# Altium schematic symbol library SOD_123_Diode.SchLib: 1 symbol
Pins are listed as number, name and electrical type; pins without a type are passive.

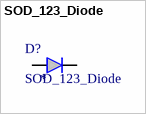
[diagram p0: symbol SOD_123_Diode]

## SOD_123_Diode
designator D?
SOD-123 Switching Diode ROHS; LCSC: *
footprint SOD_123_Diode
pins: 1 K, 2 A